# Altium footprint library PowerSupply.PcbLib: 35 footprints (part 3 of 3)
Each footprint in its own frame and in the unit in brackets; x right, y up, seen from the top. Pads: shape width x height; smd on the part's side, far side on the other; paste and mask are expansions set on the pad; w line width, h text height; cw(c..) or ccw(c..) is an arc to the next point about the centre after c.
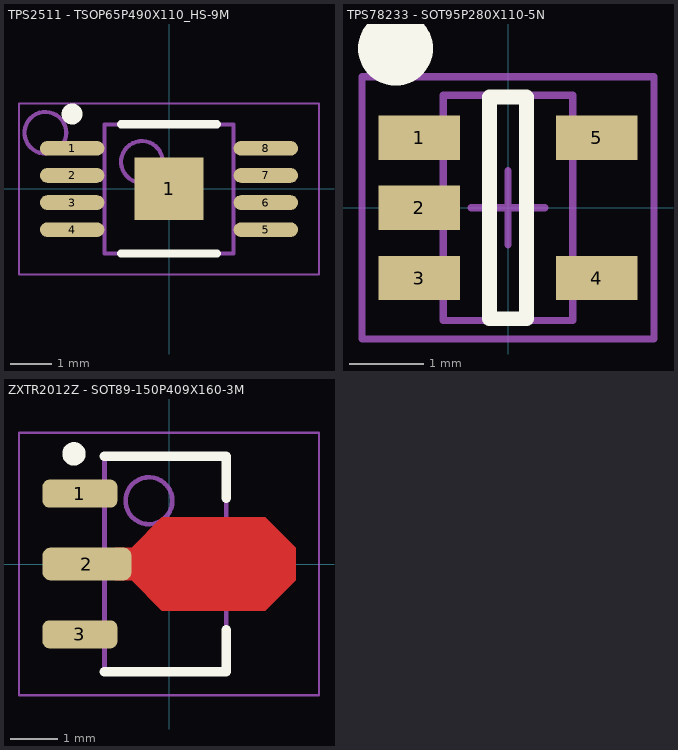
[diagram p2: the footprints below, top view; thin cyan lines are the x and y axes]

## TPS2511 - TSOP65P490X110_HS-9M [mm] "TSOP, 8-Leads, Body 3.00x3.00mm, Pitch 0.65mm, Thermal Pad 1.50x1.65mm, IPC Low Density"
height 1.1
pads (9):
  oval 1.55x0.35 smd paste-0.025: 1(-2.325,0.975) 2(-2.325,0.325) 3(-2.325,-0.325) 4(-2.325,-0.975) 5(2.325,-0.975) 6(2.325,-0.325) 7(2.325,0.325) 8(2.325,0.975)
  rect 1.65x1.5 smd paste-0.15: 1(0,0)
Top Overlay:
  circle w0.25: c-2.325,1.8 r0.125
  lines w0.2: -1.15,-1.55 1.15,-1.55 ; -1.15,1.55 1.15,1.55
Mechanical 13:
  circle w0.1: c-0.65,0.65 r0.5
  lines w0.1: -1.55,-1.55 1.55,-1.55 1.55,1.55 -1.55,1.55 -1.55,-1.55
Mechanical 15:
  lines w0.05: -3.6,-2.05 3.6,-2.05 3.6,2.05 -3.6,2.05 -3.6,-2.05
  lines w0.1: -0.5,0 0.5,0 ; 0,-0.5 0,0.5
Assembly:
  circle w0.1: c-2.967,1.35 r0.5
  text ".Designator" at -2.2,-0.3 h1.1
3D body: height 1.1, standoff 0.05, extent -1.55,-1.55 1.55,1.55

## TPS78233 - SOT95P280X110-5N [mm] "SOT23, 5-Leads, Body 3.0x3.0mm (max), Pitch 0.95mm, IPC Medium Density"
height 1.1
pads (5):
  rect 1.1x0.6 smd paste-0.025: 1(-1.2,0.95) 2(-1.2,0) 3(-1.2,-0.95) 4(1.2,-0.95) 5(1.2,0.95)
Top Overlay:
  circle w0.762: c-1.522,2.159 r0.125
  lines w0.2: -0.25,-1.5 -0.25,1.5 0.25,1.5 0.25,-1.5 -0.25,-1.5
Mechanical 13:
  lines w0.1: -0.875,-1.525 0.875,-1.525 0.875,1.525 -0.875,1.525 -0.875,-1.525
Mechanical 15:
  lines w0.1: -0.5,0 0.5,0 ; 0,-0.5 0,0.5 ; -1.975,-1.775 1.975,-1.775 1.975,1.775 -1.975,1.775 -1.975,-1.775
Assembly:
  text ".Designator" at -1.692,-0.3 h1.1
3D body: height 1.1, standoff 0.1, extent -0.875,-1.525 0.875,1.525

## ZXTR2012Z - SOT89-150P409X160-3M [mm] "SOT89, 3-Leads, Body 4.50x2.45mm, Pitch 1.50mm, Lead Span 4.1mm, IPC Low Density"
height 1.6
pads (3):
  rrect50% 1.6x0.6 smd paste-0.025: 1(-1.9,1.5) 3(-1.9,-1.5)
  rrect50% 1.9x0.7 smd paste-0.025: 2(-1.75,0)
Top Layer:
  region: -0.8,0.35 -0.15,1 2.05,1 2.7,0.35 2.7,-0.35 2.05,-1 -0.15,-1 -0.8,-0.35 -1.15,-0.35 -1.15,0.35
Top Overlay:
  circle w0.25: c-2.028,2.35 r0.125
  lines w0.2: -1.378,-2.3 1.222,-2.3 1.222,-1.4 ; -1.378,2.3 1.222,2.3 1.222,1.4
Top Paste:
  region: -1.1,0.325 -0.8,0.325 -0.75,0.325 -0.75,-0.325 -0.8,-0.325 -1.1,-0.325
Mechanical 13:
  circle w0.1: c-0.427,1.35 r0.5
  lines w0.1: -1.378,-2.3 -1.378,2.3 1.222,2.3 1.222,-2.3 -1.378,-2.3
Mechanical 15:
  lines w0.05: -3.2,-2.8 -3.2,2.8 3.2,2.8 3.2,-2.8 -3.2,-2.8
  lines w0.1: -0.578,0 0.422,0 ; -0.078,-0.5 -0.078,0.5
Assembly:
  lines w0.05: -3.2,-2.8 3.2,-2.8 3.2,2.8 -3.2,2.8 -3.2,-2.8
  text ".Designator" at -2.2,-0.3 h1.1
3D body: height 1.6, standoff 0, extent -1.378,-2.3 1.222,2.3